# EAGLE library part BA13 (library bienap13)
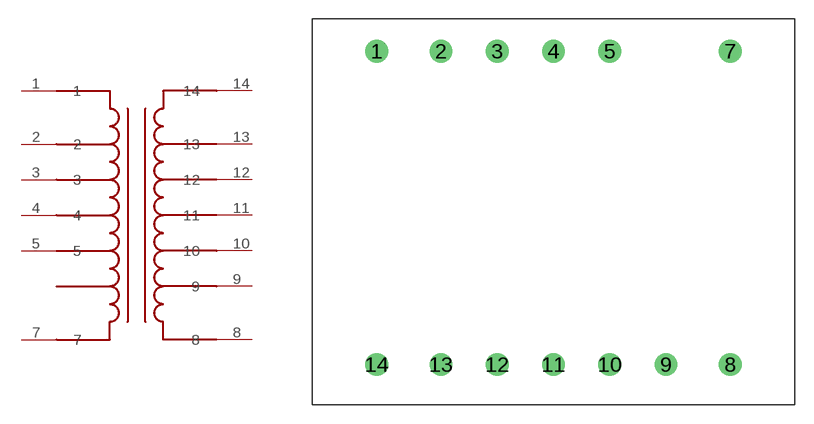
[diagram p0: symbol with the pads of TT; footprint TT]

Designator prefix -

## BA13TV  [TT]
1  1
2  2
3  3
4  4
5  5
7  7
8  8
9  9
10  10
11  11
12  12
13  13
14  14

## Footprint TT (pad centres in mm)
drill 1.2 round: 1 -13.97,12.7; 2 -8.89,12.7; 3 -4.445,12.7; 4 0,12.7; 5 4.445,12.7; 7 13.97,12.7; 8 13.97,-12.065; 9 8.89,-12.065; 10 4.445,-12.065; 11 0,-12.065; 12 -4.445,-12.065; 13 -8.89,-12.065; 14 -13.97,-12.065